# EAGLE library part RCD-24-0.70 (library LEDCurrentDrivers)
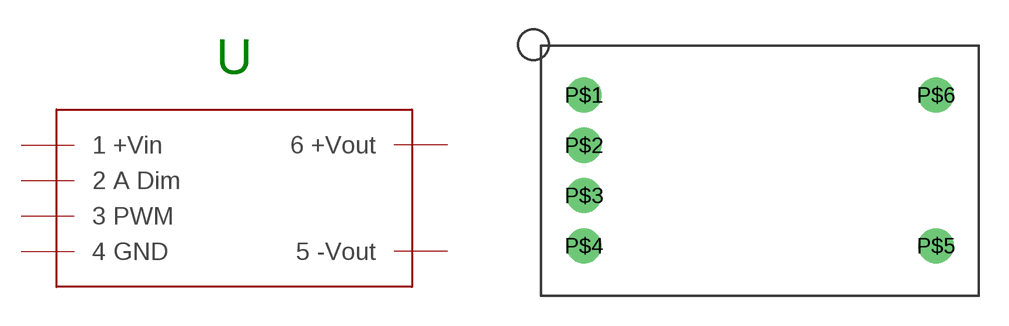
[diagram p0: symbol with the pads of RCD-24-0.70; footprint RCD-24-0.70]

Designator prefix -

## RCD-24-0.70  [RCD-24-0.70]
P$1  P$1
P$2  P$2
P$3  P$3
P$4  P$4
P$5  P$5
P$6  P$6

## Footprint RCD-24-0.70 (pad centres in mm)
drill 1.18: P$1 -8.89,3.81; P$2 -8.89,1.27; P$3 -8.89,-1.27; P$4 -8.89,-3.81; P$5 8.89,-3.81; P$6 8.89,3.81